# EAGLE library part LM22676 (library national-semi)
SIMPLE SWITCHER® 3A Step-Down Voltage Regulator
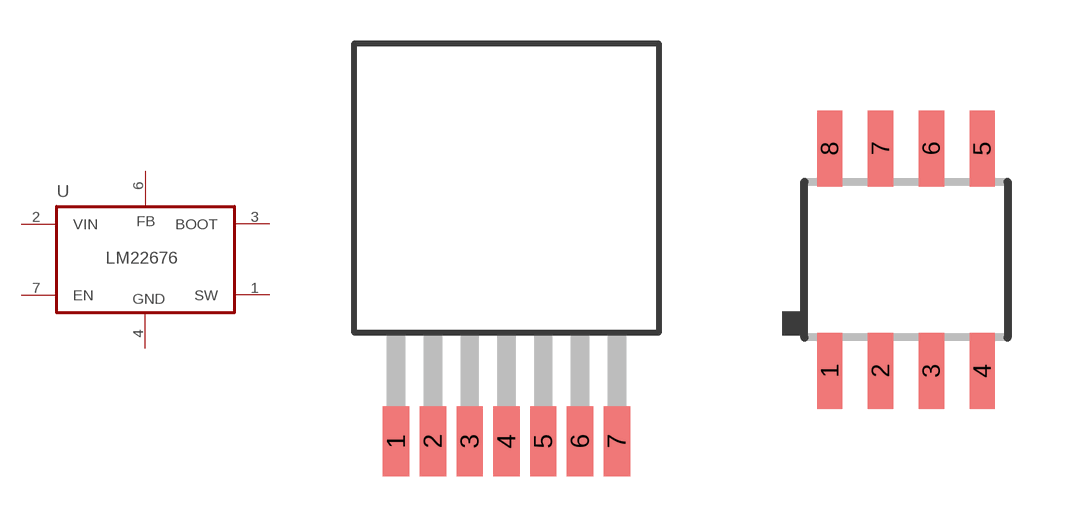
[diagram p7: symbol with the pads of TO263-7; footprints TO263-7, PSOP8]

Designator prefix U

## LM22676TJ  [TO263-7]
1  SW  out
2  VIN  in
3  BOOT  pas
4  GND  pwr
6  FB  pas
7  EN  pas

## LM22676MR  [PSOP8]
1  BOOT  pas
4  FB  pas
5  EN  pas
6  GND  pwr
7  VIN  in
8  SW  out

## Footprint TO263-7 (pad centres in mm)
TO-263 7-Lead Plastic THIN Package 1.27mm lead pitch, NS Package Number TJ7A
smd 0.91 x 2.41: 1 -3.81,-8.75; 2 -2.54,-8.75; 3 -1.27,-8.75; 4 0,-8.75; 5 1.27,-8.75; 6 2.54,-8.75; 7 3.81,-8.75

## Footprint PSOP8 (pad centres in mm)
8-Lead Plastic PSOP-8 NS Package Number MRA08B
smd 0.635 x 1.905: 1 -1.905,-2.781; 2 -0.635,-2.781; 3 0.635,-2.781; 4 1.905,-2.781; 5 1.905,2.781; 6 0.635,2.781; 7 -0.635,2.781; 8 -1.905,2.781